# Altium schematic symbol library ref33xx.SchLib: 1 symbol
Pins are listed as number, name and electrical type; pins without a type are passive.

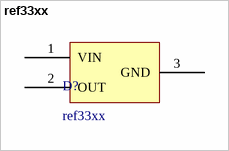
[diagram p0: symbol ref33xx]

## ref33xx
designator D?
pins: 1 VIN, 2 OUT, 3 GND